# EAGLE library part INA240 (library CurrentProbe)
Texas Instruments INA240 current sense amplifier.
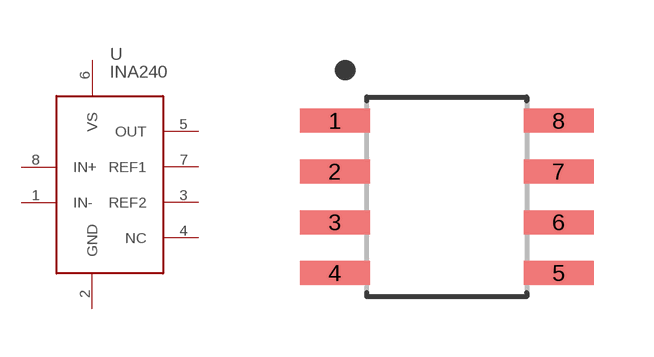
[diagram p3: symbol with the pads of D0008A; footprint D0008A]

Designator prefix U

## INA240A1DR (GAIN: 20), INA240A2DR (GAIN: 50)  [D0008A]
1  IN-  in
2  GND  pwr
3  REF2  in
4  NC  nc
5  OUT  out
6  VS  pwr
7  REF1  in
8  IN+  in

## Footprint D0008A (pad centres in mm)
SOIC 8 pin, Texas Instruments.
smd 1.75 x 0.6: 1 -2.8,1.905; 2 -2.8,0.635; 3 -2.8,-0.635; 4 -2.8,-1.905; 5 2.8,-1.905; 6 2.8,-0.635; 7 2.8,0.635; 8 2.8,1.905